# Altium schematic symbol library MIW4022.SchLib: 1 symbol
Pins are listed as number, name and electrical type; pins without a type are passive.

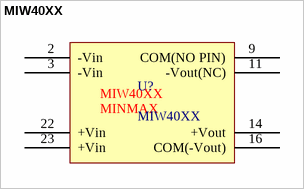
[diagram p0: symbol MIW40XX]

## MIW40XX
designator U?
footprint MIW40XX
pins: 2 -Vin, 3 -Vin, 9 COM(NO PIN), 11 -Vout(NC), 14 +Vout, 16 COM(-Vout), 22 +Vin, 23 +Vin
text: MINMAX